# Altium schematic symbol library HC-05.SchLib: 1 symbol
Pins are listed as number, name and electrical type; pins without a type are passive.

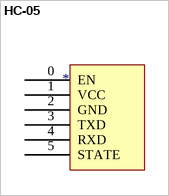
[diagram p0: symbol HC-05]

## HC-05
designator ?
footprint HC-05
pins: 0 EN, 1 VCC, 2 GND, 3 TXD, 4 RXD, 5 STATE